# Altium schematic symbol library _autosave-DebugBoard.SchLib: 10 symbols
Pins are listed as number, name and electrical type; pins without a type are passive.

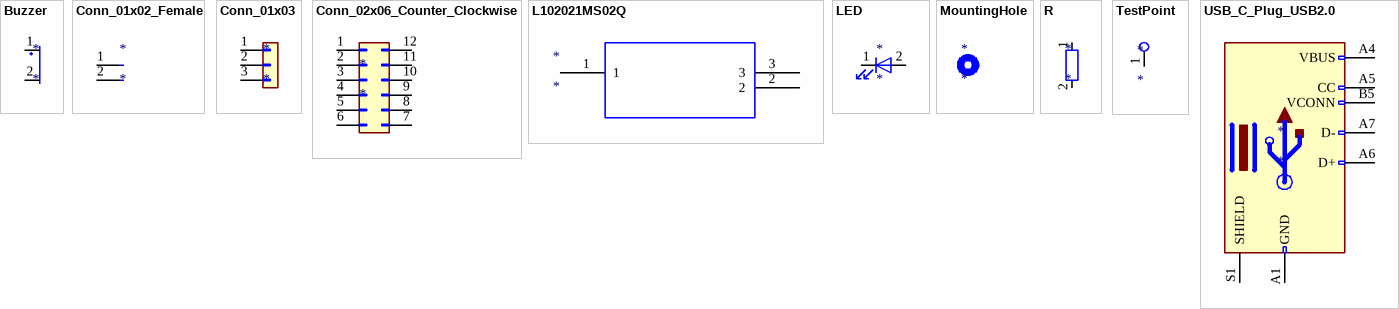
[diagram p0: symbols Buzzer to USB_C_Plug_USB2.0]

## Buzzer
designator *
pins: 1 -, 2 +

## Conn_01x02_Female
designator *
pins: 1 Pin_1, 2 Pin_2

## Conn_01x03
designator *
pins: 1 Pin_1, 2 Pin_2, 3 Pin_3

## Conn_02x06_Counter_Clockwise
designator *
pins: 1 Pin_1, 2 Pin_2, 3 Pin_3, 4 Pin_4, 5 Pin_5, 6 Pin_6, 7 Pin_7, 8 Pin_8, 9 Pin_9, 10 Pin_10, 11 Pin_11, 12 Pin_12

## L102021MS02Q
designator *
pins: 1, 2, 3

## LED
designator *
pins: 1 K, 2 A

## MountingHole
designator *

## R
designator *
pins: 1, 2

## TestPoint
designator *
pins: 1

## USB_C_Plug_USB2.0
designator *
pins: A1 GND, A4 VBUS, A5 CC, A6 D+, A7 D-, A9 VBUS hidden, A12 GND hidden, B1 GND hidden, B4 VBUS hidden, B5 VCONN, B9 VBUS hidden, B12 GND hidden, S1 SHIELD